# EAGLE library part CP2105-F01-GM (library SLJ_IC)
USB TO DUAL UART BRIDGE
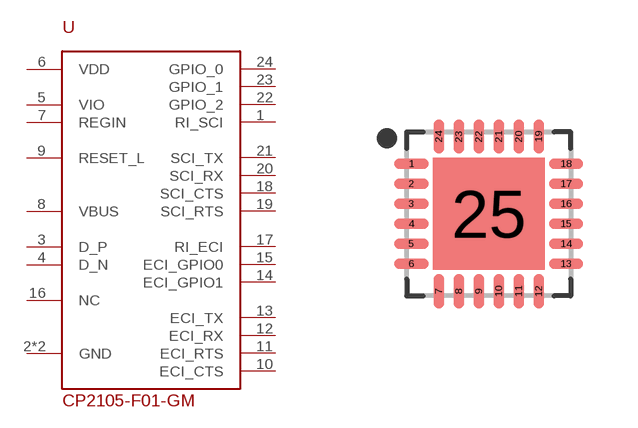
[diagram p0: symbol with the pads of QFN50P400X400X80-25T280; footprint QFN50P400X400X80-25T280]

Designator prefix U

## CP2105-F01-GM (MANUFACTURER: SILICON LABS; PART_NUMBER: CP2105-F01-GM; VALUE: CP2105)  [QFN50P400X400X80-25T280]
1  RI_SCI  in
2  GND  pwr
3  D_P
4  D_N
5  VIO  pwr
6  VDD  pwr
7  REGIN  pwr
8  VBUS  in
9  RESET_L
10  ECI_CTS  in
11  ECI_RTS  out
12  ECI_RX  in
13  ECI_TX  out
14  ECI_GPIO1
15  ECI_GPIO0
16  NC  nc
17  RI_ECI  in
18  SCI_CTS  in
19  SCI_RTS  out
20  SCI_RX  in
21  SCI_TX  out
22  GPIO_2  in
23  GPIO_1  in
24  GPIO_0  in
25  GND  pwr

## Footprint QFN50P400X400X80-25T280 (pad centres in mm)
24-QFN, 0.50 mm pitch, 4.00 X 4.00 X 0.80 mm body, 2.80 X 2.80 mm thermal pad 24-pin QFN package with 0.50 mm pitch with body size 4.00 X 4.00 X 0.80 mm and thermal pad size 2.80 X 2.80 mm
smd 0.86 x 0.264: 1 -1.935,1.25; 2 -1.935,0.75; 3 -1.935,0.25; 4 -1.935,-0.25; 5 -1.935,-0.75; 6 -1.935,-1.25; 13 1.935,-1.25; 14 1.935,-0.75; 15 1.935,-0.25; 16 1.935,0.25; 17 1.935,0.75; 18 1.935,1.25
smd 0.264 x 0.86: 7 -1.25,-1.935; 8 -0.75,-1.935; 9 -0.25,-1.935; 10 0.25,-1.935; 11 0.75,-1.935; 12 1.25,-1.935; 19 1.25,1.935; 20 0.75,1.935; 21 0.25,1.935; 22 -0.25,1.935; 23 -0.75,1.935; 24 -1.25,1.935
smd 2.8 x 2.8: 25 0,0